# EAGLE library part CS4344-CZZ (library Cirrus_Logic_By_element14_Batch_1)
Stereo D/A Converter
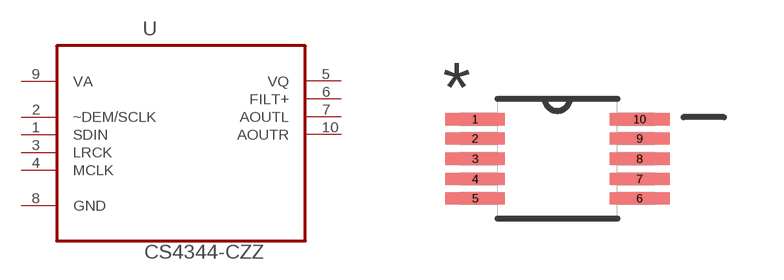
[diagram p5: symbol with the pads of SOP50P490X110-10N; footprint SOP50P490X110-10N]

Designator prefix U

## CS4344-CZZ (DESCRIPTION: Stereo D/A Converter; MPN: CS4344-CZZ; OC_FARNELL: 1023379; OC_NEWARK: 88H6427; PACKAGE: SOP-10; SUPPLIER: CIRRUS LOGIC)  [SOP50P490X110-10N]
1  SDIN  in
2  ~DEM/SCLK  in
3  LRCK  in
4  MCLK  in
5  VQ  out
6  FILT+  out
7  AOUTL  out
8  GND  pas
9  VA  in
10  AOUTR  out

## Footprint SOP50P490X110-10N (pad centres in mm)
smd 1.499 x 0.305: 1 -2.057,0.991; 2 -2.057,0.508; 3 -2.057,0; 4 -2.057,-0.508; 5 -2.057,-0.991; 6 2.057,-0.991; 7 2.057,-0.508; 8 2.057,0; 9 2.057,0.508; 10 2.057,0.991